# EAGLE library part J-18- (library con-headers-jp)
HEADER JACK PINS
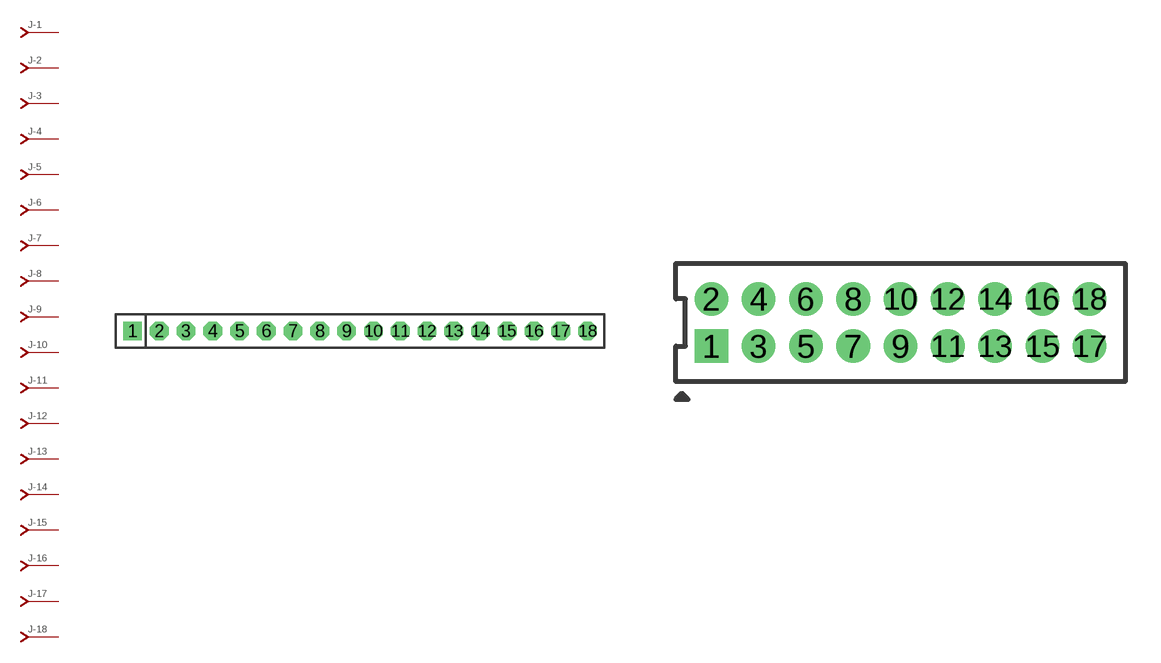
[diagram p6: symbol with the pads of SIP-100-18; footprints SIP-100-18, 79107-18]

Designator prefix J; gates -1=J-N -2=J-N -3=J-N -4=J-N -5=J-N -6=J-N -7=J-N -8=J-N -9=J-N -10=J-N -11=J-N -12=J-N -13=J-N -14=J-N -15=J-N -16=J-N -17=J-N -18=J-N

## J-18-SIP-100  [SIP-100-18]
1  -1:J  pas
2  -2:J  pas
3  -3:J  pas
4  -4:J  pas
5  -5:J  pas
6  -6:J  pas
7  -7:J  pas
8  -8:J  pas
9  -9:J  pas
10  -10:J  pas
11  -11:J  pas
12  -12:J  pas
13  -13:J  pas
14  -14:J  pas
15  -15:J  pas
16  -16:J  pas
17  -17:J  pas
18  -18:J  pas

## J-18-79107  [79107-18]
Pads as for SIP-100-18

## J-18-79109  [79109-18]
Pads as for SIP-100-18

## J-18-87264  [87264-18]
Pads as for SIP-100-18

## J-18-87340  [87340-18]
Pads as for SIP-100-18

## J-18-87368  [87368-18]
Pads as for SIP-100-18

## J-18-535512  [535512-18]
Pads as for SIP-100-18

## J-18-100-2X09  [HDR-100-2X09]
Pads as for SIP-100-18

## J-18-100-2X09_M  [HDR-100-2X09_M]
Pads as for SIP-100-18

## J-18-2MM-2X09  [HDR-2MM-2X09]
Pads as for SIP-100-18

## J-18-2MM-2X09_M  [HDR-2MM-2X09_M]
Pads as for SIP-100-18

## Footprint SIP-100-18 (pad centres in mm)
SIP Header - 0.1"
drill 0.914 pad 1.778 square: 1 -21.59,0
drill 0.914 pad 1.778 octagon: 2 -19.05,0; 3 -16.51,0; 4 -13.97,0; 5 -11.43,0; 6 -8.89,0; 7 -6.35,0; 8 -3.81,0; 9 -1.27,0; 10 1.27,0; 11 3.81,0; 12 6.35,0; 13 8.89,0; 14 11.43,0; 15 13.97,0; 16 16.51,0; 17 19.05,0; 18 21.59,0

## Footprint 79107-18 (pad centres in mm)
Molex Board-To-Board Receptacal 2.00mm (.079") Pitch Milli-Grid Header, Vertical, Through-Hole Mates with: 87759, 87762, 87758, 87760
drill 0.914 square: 1 -8,-1
drill 0.914 round: 2 -8,1; 3 -6,-1; 4 -6,1; 5 -4,-1; 6 -4,1; 7 -2,-1; 8 -2,1; 9 0,-1; 10 0,1; 11 2,-1; 12 2,1; 13 4,-1; 14 4,1; 15 6,-1; 16 6,1; 17 8,-1; 18 8,1

## Footprint 79109-18 (pad centres in mm)
Molex Board-to-Board Receptacal 2.00mm (.079") Pitch Milli-Grid Header, Vertical, Top/Bottom Entry Mates with: 87758, 87759, 87760, 87831, 87832, 87833
smd 1.12 x 1.83: 1 -8,-2.65; 2 -8,2.65; 3 -6,-2.65; 4 -6,2.65; 5 -4,-2.65; 6 -4,2.65; 7 -2,-2.65; 8 -2,2.65; 9 0,-2.65; 10 0,2.65; 11 2,-2.65; 12 2,2.65; 13 4,-2.65; 14 4,2.65; 15 6,-2.65; 16 6,2.65; 17 8,-2.65; 18 8,2.65
hole 0.914 at -7,0
hole 0.914 at -8,1
hole 0.914 at -8,-1
hole 0.914 at -6,-1
hole 0.914 at -6,1
hole 0.914 at -4,-1
hole 0.914 at -4,1
hole 0.914 at 7,0
hole 0.914 at -2,1
hole 0.914 at -2,-1
hole 0.914 at 0,1
hole 0.914 at 0,-1
hole 0.914 at 2,1
hole 0.914 at 2,-1
hole 0.914 at 4,1
hole 0.914 at 4,-1
hole 0.914 at 6,-1
hole 0.914 at 6,1
hole 0.914 at 8,1
hole 0.914 at 8,-1

## Footprint 87264-18 (pad centres in mm)
Molex Board-To-Board Receptacal 2.00mm (.079") Pitch Milli-Grid Header, Side Entry Mates with 2mm(.079") Mill-Grid Header
drill 0.914 square: 1 -8,-2.25
drill 0.914 round: 2 -8,2.25; 3 -6,-2.25; 4 -6,2.25; 5 -4,-2.25; 6 -4,2.25; 7 -2,-2.25; 8 -2,2.25; 9 0,-2.25; 10 0,2.25; 11 2,-2.25; 12 2,2.25; 13 4,-2.25; 14 4,2.25; 15 6,-2.25; 16 6,2.25; 17 8,-2.25; 18 8,2.25

## Footprint 87340-18 (pad centres in mm)
Molex Board-To-Board Receptacal 2.00mm (.079") Pitch Milli-Grid Header, Vertical, Top/Bottom Entry Mates with: 87758, 87759, 87760, 87831, 87832, 87833
smd 1 x 1.75: 1 -8,-2.5; 2 -8,2.5; 3 -6,-2.5; 4 -6,2.5; 5 -4,-2.5; 6 -4,2.5; 7 -2,-2.5; 8 -2,2.5; 9 0,2.5; 10 0,-2.5; 11 2,-2.5; 12 2,2.5; 13 4,2.5; 14 4,-2.5; 15 6,-2.5; 16 6,2.5; 17 8,-2.5; 18 8,2.5
hole 0.914 at -9,0
hole 0.914 at -8,1
hole 0.914 at -8,-1
hole 0.914 at -6,-1
hole 0.914 at -6,1
hole 0.914 at 9,0
hole 0.914 at -4,1
hole 0.914 at -4,-1
hole 0.914 at -2,1
hole 0.914 at -2,-1
hole 0.914 at 0,-1
hole 0.914 at 0,1
hole 0.914 at 2,1
hole 0.914 at 2,-1
hole 0.914 at 4,1
hole 0.914 at 4,-1
hole 0.914 at 6,1
hole 0.914 at 6,-1
hole 0.914 at 8,1
hole 0.914 at 8,-1

## Footprint 87368-18 (pad centres in mm)
Molex Board-To-Board Receptacal 2.00mm (.079") Pitch Milli-Grid Header, Side Entry SMD Mates with 2mm(.079") Mill-Grid Header
smd 1 x 2.8: 1 -8,-3.1; 2 -8,3.1; 3 -6,-3.1; 4 -6,3.1; 5 -4,-3.1; 6 -4,3.1; 7 -2,-3.1; 8 -2,3.1; 9 0,-3.1; 10 0,3.1; 11 2,-3.1; 12 2,3.1; 13 4,-3.1; 14 4,3.1; 15 6,-3.1; 16 6,3.1; 17 8,-3.1; 18 8,3.1
hole 0.914 at -8,0
hole 0.914 at 0,0

## Footprint 535512-18 (pad centres in mm)
AMPMODU - 535512 Series
drill 1.016 square: 1 -10.16,0
drill 1.016 octagon: 2 -10.16,7.938; 3 -7.62,0; 4 -7.62,7.938; 5 -5.08,0; 6 -5.08,7.938; 7 -2.54,0; 8 -2.54,7.938; 9 0,0; 10 0,7.938; 11 2.54,0; 12 2.54,7.938; 13 5.08,0; 14 5.08,7.938; 15 7.62,0; 16 7.62,7.938; 17 10.16,0; 18 10.16,7.938

## Footprint HDR-100-2X09 (pad centres in mm)
PIN HEADER - 0.1"
drill 1.016 square: 1 -10.16,-1.27
drill 1.016 octagon: 2 -10.16,1.27; 3 -7.62,-1.27; 4 -7.62,1.27; 5 -5.08,-1.27; 6 -5.08,1.27; 7 -2.54,-1.27; 8 -2.54,1.27; 9 0,-1.27; 10 0,1.27; 11 2.54,-1.27; 12 2.54,1.27; 13 5.08,-1.27; 14 5.08,1.27; 15 7.62,-1.27; 16 7.62,1.27; 17 10.16,-1.27; 18 10.16,1.27

## Footprint HDR-100-2X09_M (pad centres in mm)
PIN HEADER - 0.1" - MIRRORED
drill 1.016 square: 1 -10.16,1.27
drill 1.016 octagon: 2 -10.16,-1.27; 3 -7.62,1.27; 4 -7.62,-1.27; 5 -5.08,1.27; 6 -5.08,-1.27; 7 -2.54,1.27; 8 -2.54,-1.27; 9 0,1.27; 10 0,-1.27; 11 2.54,1.27; 12 2.54,-1.27; 13 5.08,1.27; 14 5.08,-1.27; 15 7.62,1.27; 16 7.62,-1.27; 17 10.16,1.27; 18 10.16,-1.27

## Footprint HDR-2MM-2X09 (pad centres in mm)
PIN HEADER - 2MM"
drill 0.914 square: 1 -8,-1
drill 0.914 round: 2 -8,1; 3 -6,-1; 4 -6,1; 5 -4,-1; 6 -4,1; 7 -2,-1; 8 -2,1; 9 0,-1; 10 0,1; 11 2,-1; 12 2,1; 13 4,-1; 14 4,1; 15 6,-1; 16 6,1; 17 8,-1; 18 8,1

## Footprint HDR-2MM-2X09_M (pad centres in mm)
PIN HEADER - 2MM - MIRRORED
drill 0.914 square: 1 -8,1
drill 0.914 round: 2 -8,-1; 3 -6,1; 4 -6,-1; 5 -4,1; 6 -4,-1; 7 -2,1; 8 -2,-1; 9 0,1; 10 0,-1; 11 2,1; 12 2,-1; 13 4,1; 14 4,-1; 15 6,1; 16 6,-1; 17 8,1; 18 8,-1